# Altium footprint library TO-92.PcbLib: 1 footprints
Each footprint in its own frame and in the unit in brackets; x right, y up, seen from the top. Pads: shape width x height; smd on the part's side, far side on the other; paste and mask are expansions set on the pad; w line width, h text height; cw(c..) or ccw(c..) is an arc to the next point about the centre after c.
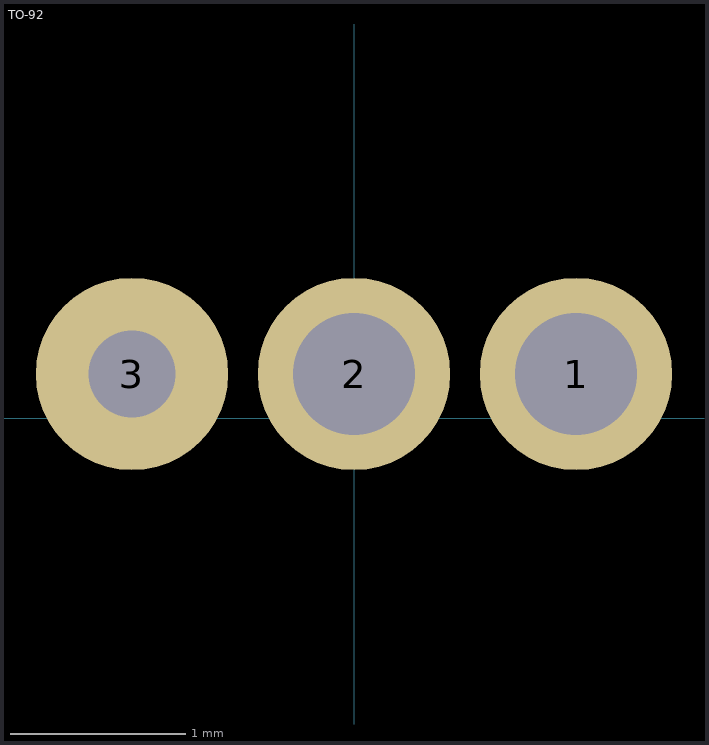
[diagram p0: the footprint, top view; thin cyan lines are the x and y axes]

## TO-92 [mm]
pads (3):
  round 1.1 hole 0.7: 1(1.27,0.254) 2(0,0.254)
  round 1.1 hole 0.5: 3(-1.27,0.254)
Mechanical 13:
  text ".Designator" at -3.937,2.476 h2.5
3D body: height 10.31, standoff -5.8, extent -3.1,-2.846 3.1,1.964